# Altium footprint library hddr_18x2_0.PcbLib: 1 footprints
Each footprint in its own frame and in the unit in brackets; x right, y up, seen from the top. Pads: shape width x height; smd on the part's side, far side on the other; paste and mask are expansions set on the pad; w line width, h text height; cw(c..) or ccw(c..) is an arc to the next point about the centre after c.
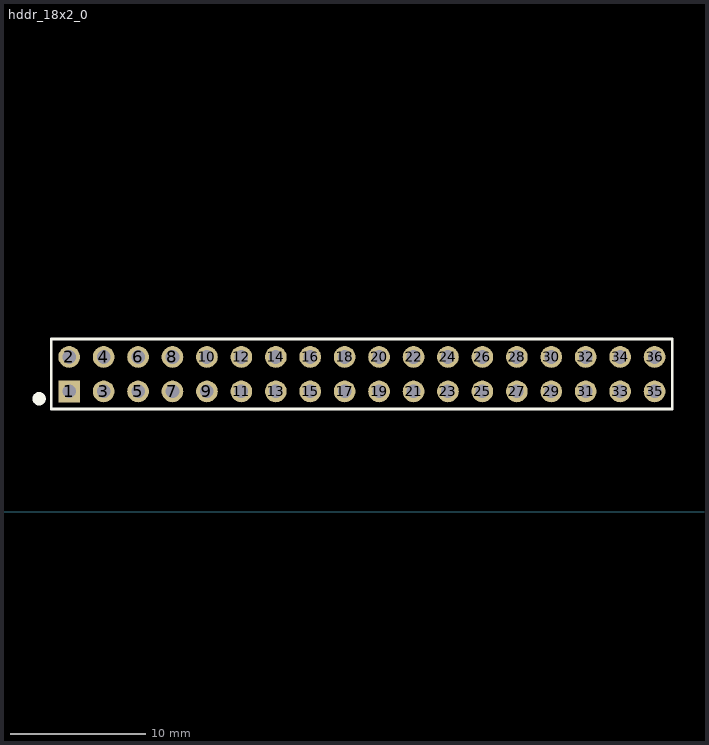
[diagram p0: the footprint, top view; thin cyan lines are the x and y axes]

## hddr_18x2_0 [mm] "0.1\" Header 18x2"
pads (36):
  rect 1.6x1.6 hole 1: 1(20.32,8.89)
  round 1.6 hole 1: 2(20.32,11.43) 3(22.86,8.89) 4(22.86,11.43) 5(25.4,8.89) 6(25.4,11.43) 7(27.94,8.89) 8(27.94,11.43) 9(30.48,8.89) 10(30.48,11.43) 11(33.02,8.89) 12(33.02,11.43) 13(35.56,8.89) 14(35.56,11.43) 15(38.1,8.89) 16(38.1,11.43) 17(40.64,8.89) 18(40.64,11.43) 19(43.18,8.89) 20(43.18,11.43) 21(45.72,8.89) 22(45.72,11.43) 23(48.26,8.89) 24(48.26,11.43) 25(50.8,8.89) 26(50.8,11.43) 27(53.34,8.89) 28(53.34,11.43) 29(55.88,8.89) 30(55.88,11.43) 31(58.42,8.89) 32(58.42,11.43) 33(60.96,8.89) 34(60.96,11.43) 35(63.5,8.89) 36(63.5,11.43)
Top Overlay:
  circle w0.5: c18.1,8.35 r0.242
  lines w0.2: 19,7.6 64.8,7.6 64.8,12.75 19,12.75 19,7.6
3D body "hddr_male_18x2.SLDPRT": height 8.54, standoff -3, extent 19.05,7.62 64.77,12.7